# EAGLE library part EP1C6 (library altera)
Altera Cyclone EP1C6 FPGA
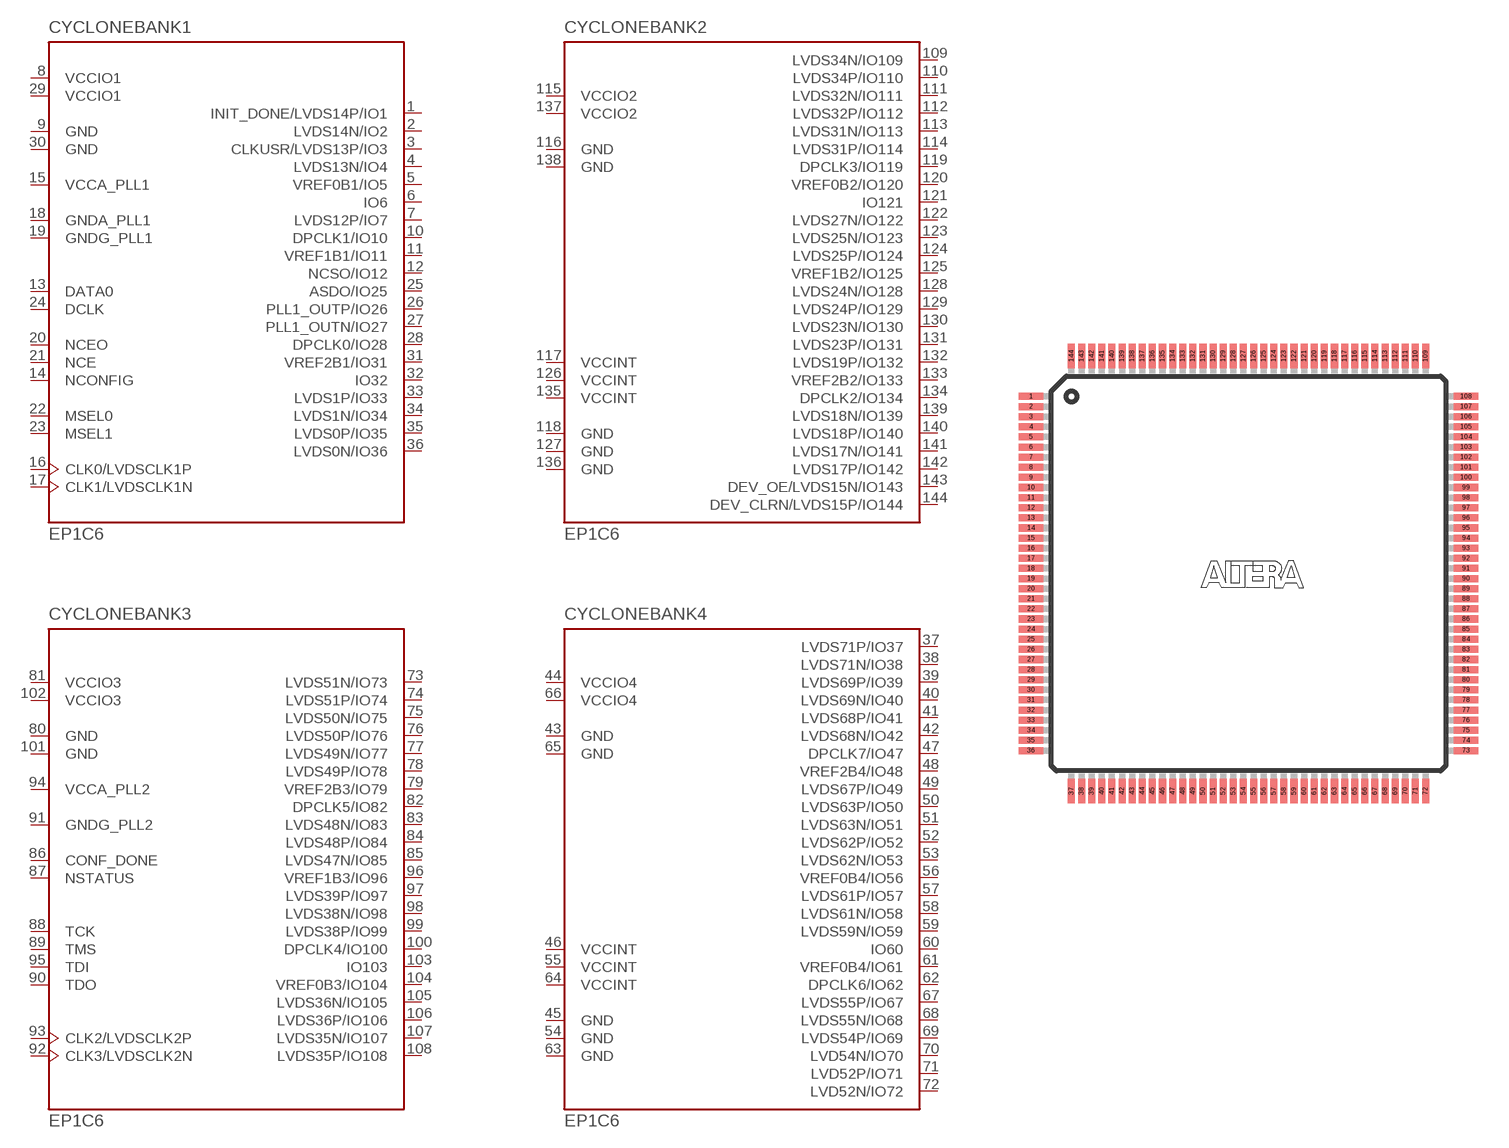
[diagram p0: symbol with the pads of TQFP144; footprint TQFP144]

Designator prefix CYCLONE; gates BANK1=B1 BANK2=B2 BANK3=B3 BANK4=B4

## EP1C6T144  [TQFP144]
1  BANK1:INIT_DONE/LVDS14P/IO1
2  BANK1:LVDS14N/IO2
3  BANK1:CLKUSR/LVDS13P/IO3
4  BANK1:LVDS13N/IO4
5  BANK1:VREF0B1/IO5
6  BANK1:IO6
7  BANK1:LVDS12P/IO7
8  BANK1:VCCIO1  pwr
9  BANK1:GND  pwr
10  BANK1:DPCLK1/IO10
11  BANK1:VREF1B1/IO11
12  BANK1:NCSO/IO12
13  BANK1:DATA0  in
14  BANK1:NCONFIG  in
15  BANK1:VCCA_PLL1  pwr
16  BANK1:CLK0/LVDSCLK1P  in
17  BANK1:CLK1/LVDSCLK1N  in
18  BANK1:GNDA_PLL1  pwr
19  BANK1:GNDG_PLL1  pwr
20  BANK1:NCEO  out
21  BANK1:NCE  in
22  BANK1:MSEL0  in
23  BANK1:MSEL1  in
24  BANK1:DCLK
25  BANK1:ASDO/IO25
26  BANK1:PLL1_OUTP/IO26
27  BANK1:PLL1_OUTN/IO27
28  BANK1:DPCLK0/IO28
29  BANK1:VCCIO1  pwr
30  BANK1:GND  pwr
31  BANK1:VREF2B1/IO31
32  BANK1:IO32
33  BANK1:LVDS1P/IO33
34  BANK1:LVDS1N/IO34
35  BANK1:LVDS0P/IO35
36  BANK1:LVDS0N/IO36
37  BANK4:LVDS71P/IO37
38  BANK4:LVDS71N/IO38
39  BANK4:LVDS69P/IO39
40  BANK4:LVDS69N/IO40
41  BANK4:LVDS68P/IO41
42  BANK4:LVDS68N/IO42
43  BANK4:GND  pwr
44  BANK4:VCCIO4  pwr
45  BANK4:GND  pwr
46  BANK4:VCCINT  pwr
47  BANK4:DPCLK7/IO47
48  BANK4:VREF2B4/IO48
49  BANK4:LVDS67P/IO49
50  BANK4:LVDS63P/IO50
51  BANK4:LVDS63N/IO51
52  BANK4:LVDS62P/IO52
53  BANK4:LVDS62N/IO53
54  BANK4:GND  pwr
55  BANK4:VCCINT  pwr
56  BANK4:VREF0B4/IO56
57  BANK4:LVDS61P/IO57
58  BANK4:LVDS61N/IO58
59  BANK4:LVDS59N/IO59
60  BANK4:IO60
61  BANK4:VREF0B4/IO61
62  BANK4:DPCLK6/IO62
63  BANK4:GND  pwr
64  BANK4:VCCINT  pwr
65  BANK4:GND  pwr
66  BANK4:VCCIO4  pwr
67  BANK4:LVDS55P/IO67
68  BANK4:LVDS55N/IO68
69  BANK4:LVDS54P/IO69
70  BANK4:LVD54N/IO70
71  BANK4:LVD52P/IO71
72  BANK4:LVD52N/IO72
73  BANK3:LVDS51N/IO73
74  BANK3:LVDS51P/IO74
75  BANK3:LVDS50N/IO75
76  BANK3:LVDS50P/IO76
77  BANK3:LVDS49N/IO77
78  BANK3:LVDS49P/IO78
79  BANK3:VREF2B3/IO79
80  BANK3:GND  pwr
81  BANK3:VCCIO3  pwr
82  BANK3:DPCLK5/IO82
83  BANK3:LVDS48N/IO83
84  BANK3:LVDS48P/IO84
85  BANK3:LVDS47N/IO85
86  BANK3:CONF_DONE
87  BANK3:NSTATUS
88  BANK3:TCK  in
89  BANK3:TMS  in
90  BANK3:TDO  out
91  BANK3:GNDG_PLL2  pwr
92  BANK3:CLK3/LVDSCLK2N  in
93  BANK3:CLK2/LVDSCLK2P  in
94  BANK3:VCCA_PLL2  pwr
95  BANK3:TDI  in
96  BANK3:VREF1B3/IO96
97  BANK3:LVDS39P/IO97
98  BANK3:LVDS38N/IO98
99  BANK3:LVDS38P/IO99
100  BANK3:DPCLK4/IO100
101  BANK3:GND  pwr
102  BANK3:VCCIO3  pwr
103  BANK3:IO103
104  BANK3:VREF0B3/IO104
105  BANK3:LVDS36N/IO105
106  BANK3:LVDS36P/IO106
107  BANK3:LVDS35N/IO107
108  BANK3:LVDS35P/IO108
109  BANK2:LVDS34N/IO109
110  BANK2:LVDS34P/IO110
111  BANK2:LVDS32N/IO111
112  BANK2:LVDS32P/IO112
113  BANK2:LVDS31N/IO113
114  BANK2:LVDS31P/IO114
115  BANK2:VCCIO2  pwr
116  BANK2:GND  pwr
117  BANK2:VCCINT  pwr
118  BANK2:GND  pwr
119  BANK2:DPCLK3/IO119
120  BANK2:VREF0B2/IO120
121  BANK2:IO121
122  BANK2:LVDS27N/IO122
123  BANK2:LVDS25N/IO123
124  BANK2:LVDS25P/IO124
125  BANK2:VREF1B2/IO125
126  BANK2:VCCINT  pwr
127  BANK2:GND  pwr
128  BANK2:LVDS24N/IO128
129  BANK2:LVDS24P/IO129
130  BANK2:LVDS23N/IO130
131  BANK2:LVDS23P/IO131
132  BANK2:LVDS19P/IO132
133  BANK2:VREF2B2/IO133
134  BANK2:DPCLK2/IO134
135  BANK2:VCCINT  pwr
136  BANK2:GND  pwr
137  BANK2:VCCIO2  pwr
138  BANK2:GND  pwr
139  BANK2:LVDS18N/IO139
140  BANK2:LVDS18P/IO140
141  BANK2:LVDS17N/IO141
142  BANK2:LVDS17P/IO142
143  BANK2:DEV_OE/LVDS15N/IO143
144  BANK2:DEV_CLRN/LVDS15P/IO144

## Footprint TQFP144 (pad centres in mm)
Plastic Quad Flat Pack
smd 1.2 x 0.35: 1 -10.75,8.75; 2 -10.75,8.25; 3 -10.75,7.75; 4 -10.75,7.25; 5 -10.75,6.75; 6 -10.75,6.25; 7 -10.75,5.75; 8 -10.75,5.25; 9 -10.75,4.75; 10 -10.75,4.25; 11 -10.75,3.75; 12 -10.75,3.25; 13 -10.75,2.75; 14 -10.75,2.25; 15 -10.75,1.75; 16 -10.75,1.25; 17 -10.75,0.75; 18 -10.75,0.25; 19 -10.75,-0.25; 20 -10.75,-0.75; 21 -10.75,-1.25; 22 -10.75,-1.75; 23 -10.75,-2.25; 24 -10.75,-2.75; 25 -10.75,-3.25; 26 -10.75,-3.75; 27 -10.75,-4.25; 28 -10.75,-4.75; 29 -10.75,-5.25; 30 -10.75,-5.75; 31 -10.75,-6.25; 32 -10.75,-6.75; 33 -10.75,-7.25; 34 -10.75,-7.75; 35 -10.75,-8.25; 36 -10.75,-8.75; 73 10.75,-8.75; 74 10.75,-8.25; 75 10.75,-7.75; 76 10.75,-7.25; 77 10.75,-6.75; 78 10.75,-6.25; 79 10.75,-5.75; 80 10.75,-5.25; 81 10.75,-4.75; 82 10.75,-4.25; 83 10.75,-3.75; 84 10.75,-3.25; 85 10.75,-2.75; 86 10.75,-2.25; 87 10.75,-1.75; 88 10.75,-1.25; 89 10.75,-0.75; 90 10.75,-0.25; 91 10.75,0.25; 92 10.75,0.75; 93 10.75,1.25; 94 10.75,1.75; 95 10.75,2.25; 96 10.75,2.75; 97 10.75,3.25; 98 10.75,3.75; 99 10.75,4.25; 100 10.75,4.75; 101 10.75,5.25; 102 10.75,5.75; 103 10.75,6.25; 104 10.75,6.75; 105 10.75,7.25; 106 10.75,7.75; 107 10.75,8.25; 108 10.75,8.75
smd 0.35 x 1.2: 37 -8.75,-10.75; 38 -8.25,-10.75; 39 -7.75,-10.75; 40 -7.25,-10.75; 41 -6.75,-10.75; 42 -6.25,-10.75; 43 -5.75,-10.75; 44 -5.25,-10.75; 45 -4.75,-10.75; 46 -4.25,-10.75; 47 -3.75,-10.75; 48 -3.25,-10.75; 49 -2.75,-10.75; 50 -2.25,-10.75; 51 -1.75,-10.75; 52 -1.25,-10.75; 53 -0.75,-10.75; 54 -0.25,-10.75; 55 0.25,-10.75; 56 0.75,-10.75; 57 1.25,-10.75; 58 1.75,-10.75; 59 2.25,-10.75; 60 2.75,-10.75; 61 3.25,-10.75; 62 3.75,-10.75; 63 4.25,-10.75; 64 4.75,-10.75; 65 5.25,-10.75; 66 5.75,-10.75; 67 6.25,-10.75; 68 6.75,-10.75; 69 7.25,-10.75; 70 7.75,-10.75; 71 8.25,-10.75; 72 8.75,-10.75; 109 8.75,10.75; 110 8.25,10.75; 111 7.75,10.75; 112 7.25,10.75; 113 6.75,10.75; 114 6.25,10.75; 115 5.75,10.75; 116 5.25,10.75; 117 4.75,10.75; 118 4.25,10.75; 119 3.75,10.75; 120 3.25,10.75; 121 2.75,10.75; 122 2.25,10.75; 123 1.75,10.75; 124 1.25,10.75; 125 0.75,10.75; 126 0.25,10.75; 127 -0.25,10.75; 128 -0.75,10.75; 129 -1.25,10.75; 130 -1.75,10.75; 131 -2.25,10.75; 132 -2.75,10.75; 133 -3.25,10.75; 134 -3.75,10.75; 135 -4.25,10.75; 136 -4.75,10.75; 137 -5.25,10.75; 138 -5.75,10.75; 139 -6.25,10.75; 140 -6.75,10.75; 141 -7.25,10.75; 142 -7.75,10.75; 143 -8.25,10.75; 144 -8.75,10.75